# Altium schematic symbol library goldpin.SchLib: 19 symbols
Pins are listed as number, name and electrical type; pins without a type are passive.

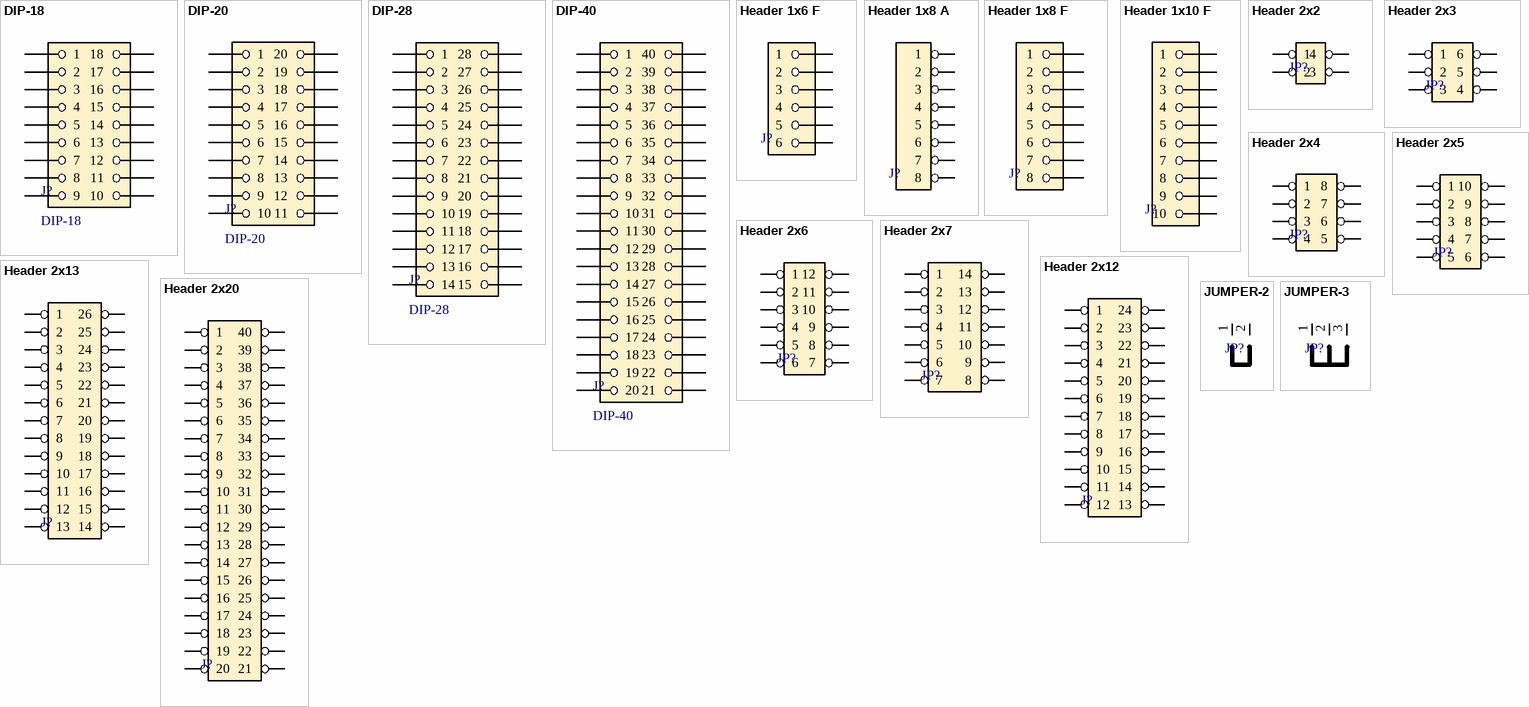
[diagram p0: symbols DIP-18 to JUMPER-3]

## DIP-18
designator J?
Current rating: 1A; Voltage rating: 100V; Contact resistance (max): 15mohm; ComponentLink1Description: Datasheet; ComponentLink1URL: http://www.farnell.com/datasheets/2945665.pdf?_ga=2.253269833.1193962280.1589558354-303286379.1586364067&_gac=1.195417566.1589563198.Cj0KCQjw-_j1BRDkARIsAJcfmTFIG7O-lBwUzM7jXL1d54rcmK8ZCJrBZphKUIU-ia_1DnqilNgsh1YaAq1qEALw_wcB
footprint DIP18
pins: 1, 2, 3, 4, 5, 6, 7, 8, 9, 10, 11, 12, 13, 14, 15, 16, 17, 18

## DIP-20
designator J?
Current rating: 1A; Voltage rating: 100V; Contact resistance (max): 15mohm; ComponentLink1Description: Datasheet; ComponentLink1URL: http://www.farnell.com/datasheets/2945665.pdf?_ga=2.253269833.1193962280.1589558354-303286379.1586364067&_gac=1.195417566.1589563198.Cj0KCQjw-_j1BRDkARIsAJcfmTFIG7O-lBwUzM7jXL1d54rcmK8ZCJrBZphKUIU-ia_1DnqilNgsh1YaAq1qEALw_wcB
footprint DIP20
pins: 1, 2, 3, 4, 5, 6, 7, 8, 9, 10, 11, 12, 13, 14, 15, 16, 17, 18, 19, 20

## DIP-28
designator J?
Current rating: 1A; Voltage rating: 100V; Contact resistance (max): 15mohm; ComponentLink1Description: Datasheet; ComponentLink1URL: http://www.farnell.com/datasheets/2945665.pdf?_ga=2.253269833.1193962280.1589558354-303286379.1586364067&_gac=1.195417566.1589563198.Cj0KCQjw-_j1BRDkARIsAJcfmTFIG7O-lBwUzM7jXL1d54rcmK8ZCJrBZphKUIU-ia_1DnqilNgsh1YaAq1qEALw_wcB
footprint DIP28
pins: 1, 2, 3, 4, 5, 6, 7, 8, 9, 10, 11, 12, 13, 14, 15, 16, 17, 18, 19, 20, 21, 22, 23, 24, 25, 26, 27, 28

## DIP-40
designator J?
Current rating: 1A; Voltage rating: 100V; Contact resistance (max): 15mohm; ComponentLink1Description: Datasheet; ComponentLink1URL: http://www.farnell.com/datasheets/2945665.pdf?_ga=2.253269833.1193962280.1589558354-303286379.1586364067&_gac=1.195417566.1589563198.Cj0KCQjw-_j1BRDkARIsAJcfmTFIG7O-lBwUzM7jXL1d54rcmK8ZCJrBZphKUIU-ia_1DnqilNgsh1YaAq1qEALw_wcB
footprint DIP40
pins: 1, 2, 3, 4, 5, 6, 7, 8, 9, 10, 11, 12, 13, 14, 15, 16, 17, 18, 19, 20, 21, 22, 23, 24, 25, 26, 27, 28, 29, 30, 31, 32, 33, 34, 35, 36, 37, 38, 39, 40

## Header 1x6 F
designator J?  (value not drawn)
footprint Header 1x6 (Connector; Header; 6 Position)
pins: 1, 2, 3, 4, 5, 6

## Header 1x8 A
designator J?  (value not drawn)
footprint Header 1x8H (Connector; Header; 8 Position; Right Angle)
pins: 1, 2, 3, 4, 5, 6, 7, 8

## Header 1x8 F
designator J?  (value not drawn)
footprint Header 1x8 (Connector; Header; 8 Position)
pins: 1, 2, 3, 4, 5, 6, 7, 8

## Header 1x10 F
designator J?  (value not drawn)
footprint Header 1x10 (Connector; Header; 10 Position)
pins: 1, 2, 3, 4, 5, 6, 7, 8, 9, 10

## Header 2x2
designator JP?  (value not drawn)
footprint Header 2x2 (Connector; Header; 2x2 Position)
pins: 1, 2, 3, 4

## Header 2x3
designator JP?  (value not drawn)
footprint Header 2x3 (Connector; Header; 3x2 Position)
pins: 1, 2, 3, 4, 5, 6

## Header 2x4
designator JP?  (value not drawn)
footprint Header 2x4 (Connector; Header; 4x2 Position)
pins: 1, 2, 3, 4, 5, 6, 7, 8

## Header 2x5
designator JP?  (value not drawn)
footprint Header2x5 (Connector; Header; 5x2 Position)
pins: 1, 2, 3, 4, 5, 6, 7, 8, 9, 10

## Header 2x6
designator JP?  (value not drawn)
footprint Header 2x6 (Connector; Header; 6x2 Position)
pins: 1, 2, 3, 4, 5, 6, 7, 8, 9, 10, 11, 12

## Header 2x7
designator JP?  (value not drawn)
footprint Header 2x7 (Connector; Header; 7x2 Position)
pins: 1, 2, 3, 4, 5, 6, 7, 8, 9, 10, 11, 12, 13, 14

## Header 2x12
designator J?  (value not drawn)
footprint Header 2x12 (Connector; Header; 12x2 Position)
pins: 1, 2, 3, 4, 5, 6, 7, 8, 9, 10, 11, 12, 13, 14, 15, 16, 17, 18, 19, 20, 21, 22, 23, 24

## Header 2x13
designator J?  (value not drawn)
footprint Header 2x13 (Connector; Header; 13x2 Position)
pins: 1, 2, 3, 4, 5, 6, 7, 8, 9, 10, 11, 12, 13, 14, 15, 16, 17, 18, 19, 20, 21, 22, 23, 24, 25, 26

## Header 2x20
designator J?  (value not drawn)
footprint Header 2x20 (Connector; Header; 20x2 Position)
pins: 1, 2, 3, 4, 5, 6, 7, 8, 9, 10, 11, 12, 13, 14, 15, 16, 17, 18, 19, 20, 21, 22, 23, 24, 25, 26, 27, 28, 29, 30, 31, 32, 33, 34, 35, 36, 37, 38, 39, 40

## JUMPER-2
designator JP?  (value not drawn)
footprint Header 1x2 (Connector; Header; 2 Position)
pins: 1, 2

## JUMPER-3
designator JP?  (value not drawn)
footprint Header 1x3 (Connector; Header; 3 Position)
pins: 1, 2, 3